# EAGLE library part HEADER_01X09 (library MF_Connectors)
Library: MF_Connectors Description: Header Connector with 9 Positions and 01 Rows. Use the LABEL Attribute to label the pin on the schematic and PCB. You can remove the attributes on the PCB by using the SMASH function on the part and then deleting the text.
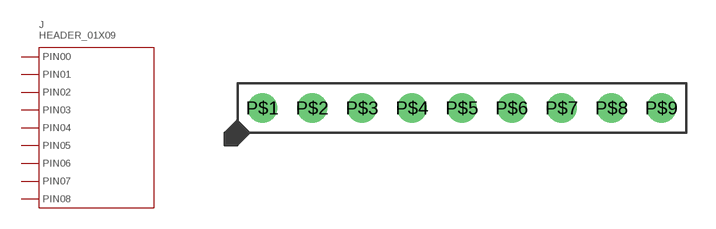
[diagram p6: symbol with the pads of PTH_2.54MM_01X09; footprint PTH_2.54MM_01X09]

Designator prefix J

## HEADER_01X09_PTH_2.54MM  [PTH_2.54MM_01X09]
P$1  PIN0
P$2  PIN1
P$3  PIN2
P$4  PIN3
P$5  PIN4
P$6  PIN5
P$7  PIN6
P$8  PIN7
P$9  PIN8

## Footprint PTH_2.54MM_01X09 (pad centres in mm)
Description: Package for 2.54MM Pitch Header 9 Position. Based on 4UCON 00834.
drill 1: P$1 -10.16,0; P$2 -7.62,0; P$3 -5.08,0; P$4 -2.54,0; P$5 0,0; P$6 2.54,0; P$7 5.08,0; P$8 7.62,0; P$9 10.16,0